# EAGLE library part STM32F469AGH6 (library circuit_tree)
IC
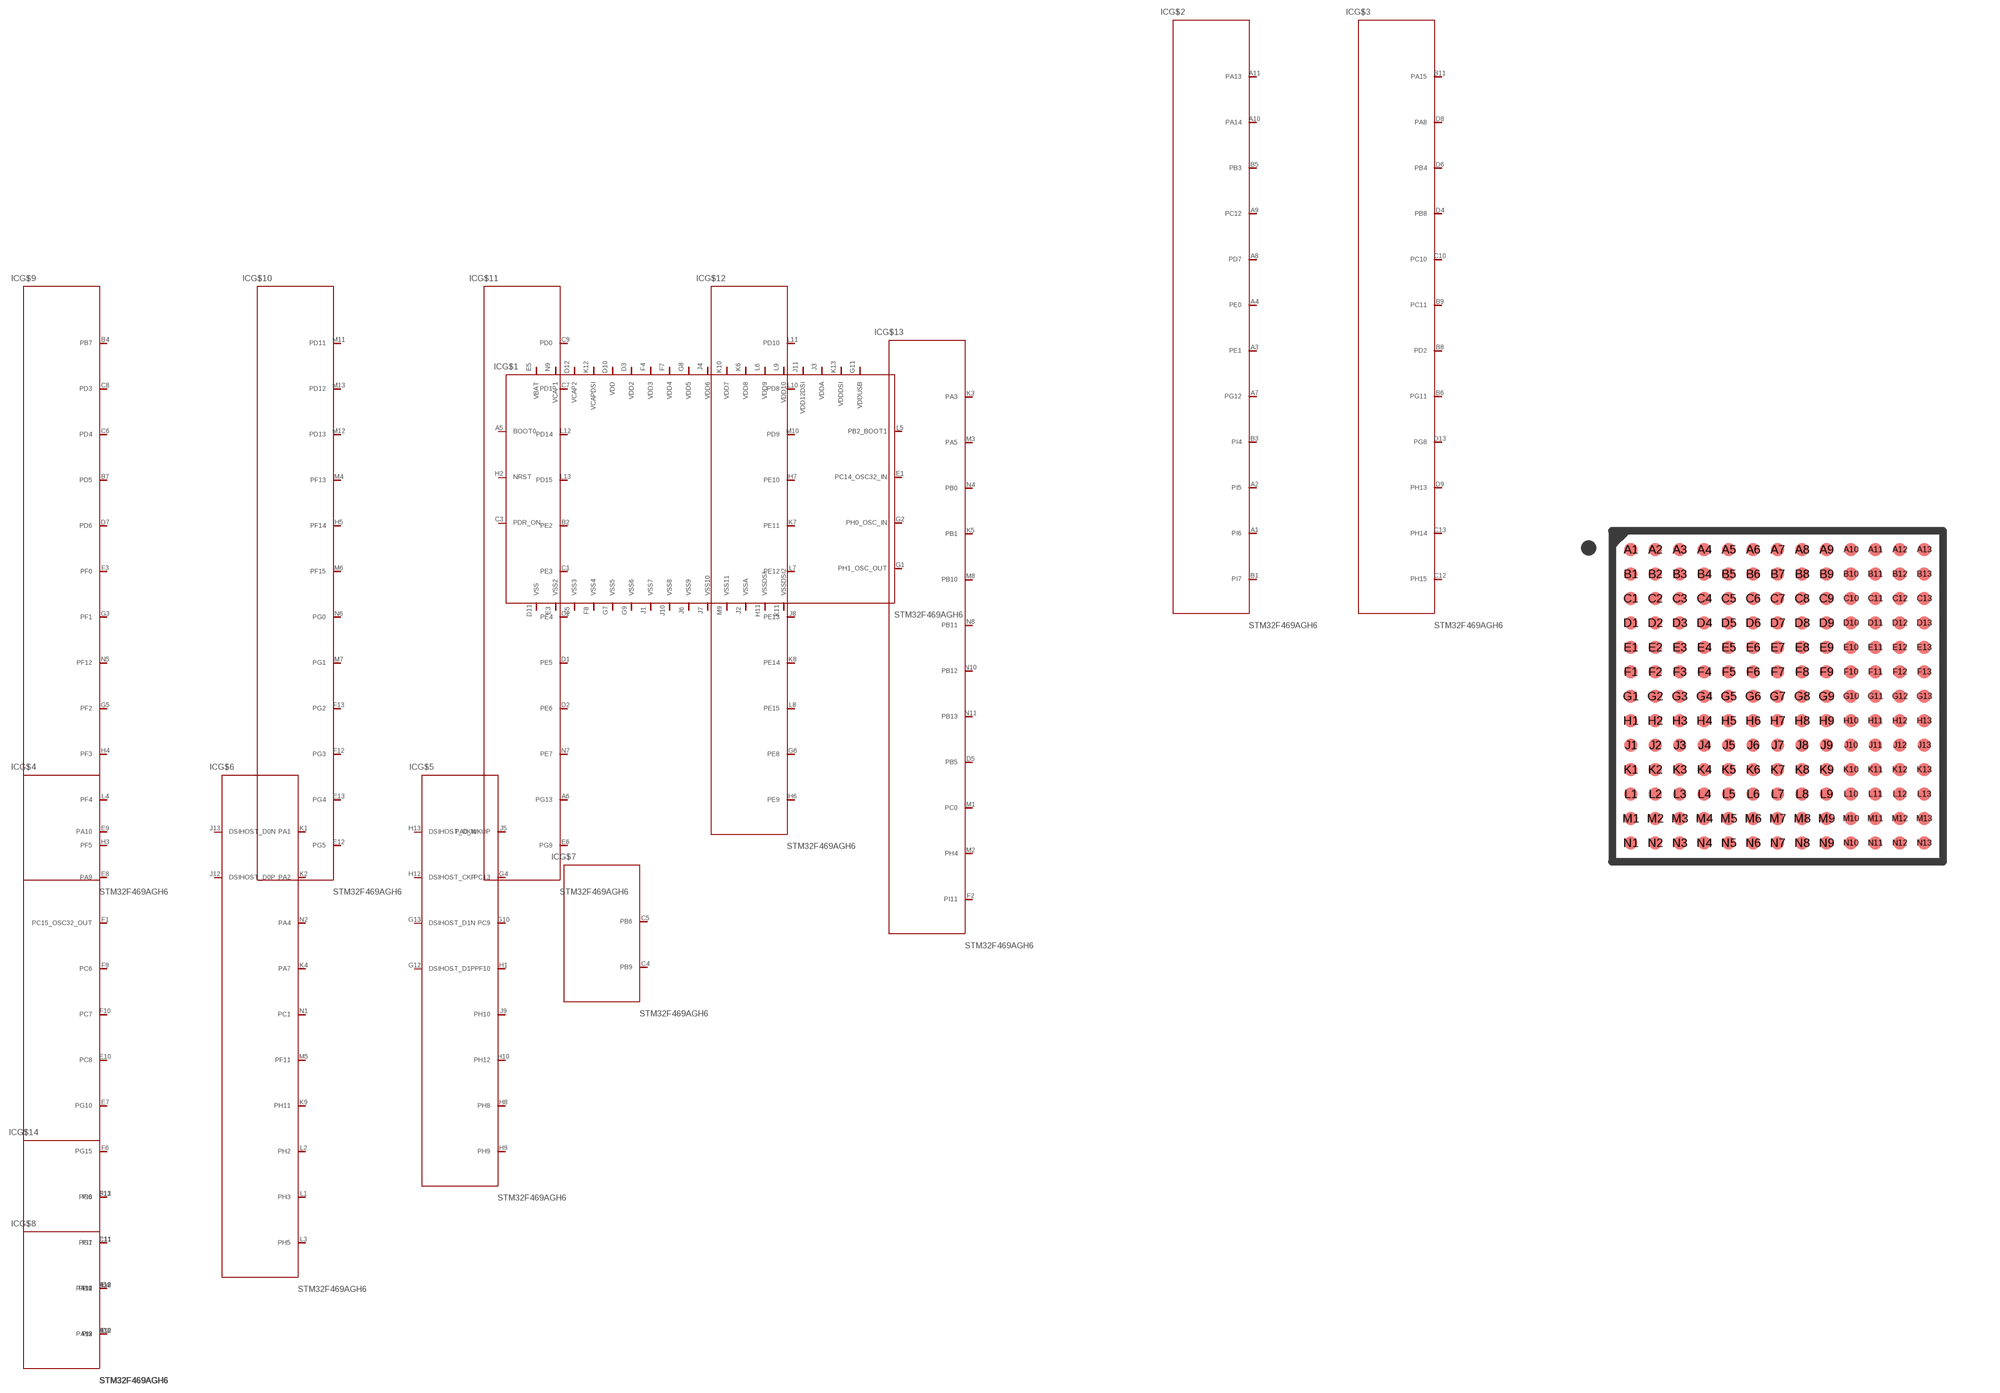
[diagram p9: symbol with the pads of UFBGA169; footprint UFBGA169]

Designator prefix IC; gates G$1=STM32F469AGH6 G$2=STM32F469AGH62 G$3=STM32F469AGH63 G$4=STM32F469AGH64 G$5=STM32F469AGH65 G$6=STM32F469AGH66 G$7=STM32F469AGH67 G$8=STM32F469AGH68 G$9=STM32F469AGH69 G$10=STM32F469AGH610 G$11=STM32F469AGH611 G$12=STM32F469AGH612 G$13=STM32F469AGH613 G$14=STM32F469AGH614

## STM32F469AGH6  [UFBGA169]
A1  G$2:PI6  pas
A2  G$2:PI5  pas
A3  G$2:PE1  pas
A4  G$2:PE0  pas
A5  G$1:BOOT0  pas
A6  G$11:PG13  pas
A7  G$2:PG12  pas
A8  G$2:PD7  pas
A9  G$2:PC12  pas
A10  G$2:PA14  pas
A11  G$2:PA13  pas
A12  G$8:PA12  pas
A13  G$8:PA11  pas
B1  G$2:PI7  pas
B2  G$11:PE2  pas
B3  G$2:PI4  pas
B4  G$9:PB7  pas
B5  G$2:PB3  pas
B6  G$3:PG11  pas
B7  G$9:PD5  pas
B8  G$3:PD2  pas
B9  G$3:PC11  pas
B10  G$14:PI3  pas
B11  G$3:PA15  pas
B12  G$14:PI2  pas
B13  G$14:PI0  pas
C1  G$11:PE3  pas
C2  G$11:PE4  pas
C3  G$1:PDR_ON  pas
C4  G$7:PB9  pas
C5  G$7:PB6  pas
C6  G$9:PD4  pas
C7  G$11:PD1  pas
C8  G$9:PD3  pas
C9  G$11:PD0  pas
C10  G$3:PC10  pas
C11  G$14:PI1  pas
C12  G$3:PH15  pas
C13  G$3:PH14  pas
D1  G$11:PE5  pas
D2  G$11:PE6  pas
D3  G$1:VDD2  pas
D4  G$3:PB8  pas
D5  G$13:PB5  pas
D6  G$3:PB4  pas
D7  G$9:PD6  pas
D8  G$3:PA8  pas
D9  G$3:PH13  pas
D10  G$1:VDD  pas
D11  G$1:VSS  pas
D12  G$1:VCAP2  pas
D13  G$3:PG8  pas
E1  G$1:PC14_OSC32_IN  pas
E2  G$4:PI9  pas
E3  G$1:VSS2  pas
E4  G$4:PI10  pas
E5  G$1:VBAT  pas
E6  G$11:PG9  pas
E7  G$4:PG10  pas
E8  G$4:PA9  pas
E9  G$4:PA10  pas
E10  G$4:PC8  pas
E11  G$4:PG7  pas
E12  G$10:PG5  pas
E13  G$10:PG4  pas
F1  G$4:PC15_OSC32_OUT  pas
F2  G$13:PI11  pas
F3  G$9:PF0  pas
F4  G$1:VDD3  pas
F5  G$1:VSS3  pas
F6  G$4:PG15  pas
F7  G$1:VDD4  pas
F8  G$1:VSS4  pas
F9  G$4:PC6  pas
F10  G$4:PC7  pas
F11  G$4:PG6  pas
F12  G$10:PG3  pas
F13  G$10:PG2  pas
G1  G$1:PH1_OSC_OUT  pas
G2  G$1:PH0_OSC_IN  pas
G3  G$9:PF1  pas
G4  G$5:PC13  pas
G5  G$9:PF2  pas
G6  G$12:PE8  pas
G7  G$1:VSS5  pas
G8  G$1:VDD5  pas
G9  G$1:VSS6  pas
G10  G$5:PC9  pas
G11  G$1:VDDUSB  pas
G12  G$5:DSIHOST_D1P  pas
G13  G$5:DSIHOST_D1N  pas
H1  G$5:PF10  pas
H2  G$1:NRST  pas
H3  G$9:PF5  pas
H4  G$9:PF3  pas
H5  G$10:PF14  pas
H6  G$12:PE9  pas
H7  G$12:PE10  pas
H8  G$5:PH8  pas
H9  G$5:PH9  pas
H10  G$5:PH12  pas
H11  G$1:VSSDSI  pas
H12  G$5:DSIHOST_CKP  pas
H13  G$5:DSIHOST_CKN  pas
J1  G$1:VSS7  pas
J2  G$1:VSSA  pas
J3  G$1:VDDA  pas
J4  G$1:VDD6  pas
J5  G$5:PA0_WKUP  pas
J6  G$1:VSS9  pas
J7  G$1:VSS10  pas
J8  G$12:PE13  pas
J9  G$5:PH10  pas
J10  G$1:VSS8  pas
J11  G$1:VDD12DSI  pas
J12  G$6:DSIHOST_D0P  pas
J13  G$6:DSIHOST_D0N  pas
K1  G$6:PA1  pas
K2  G$6:PA2  pas
K3  G$13:PA3  pas
K4  G$6:PA7  pas
K5  G$13:PB1  pas
K6  G$1:VDD8  pas
K7  G$12:PE11  pas
K8  G$12:PE14  pas
K9  G$6:PH11  pas
K10  G$1:VDD7  pas
K11  G$1:VSSDSI2  pas
K12  G$1:VCAPDSI  pas
K13  G$1:VDDDSI  pas
L1  G$6:PH3  pas
L2  G$6:PH2  pas
L3  G$6:PH5  pas
L4  G$9:PF4  pas
L5  G$1:PB2_BOOT1  pas
L6  G$1:VDD9  pas
L7  G$12:PE12  pas
L8  G$12:PE15  pas
L9  G$1:VDD10  pas
L10  G$12:PD8  pas
L11  G$12:PD10  pas
L12  G$11:PD14  pas
L13  G$11:PD15  pas
M1  G$13:PC0  pas
M2  G$13:PH4  pas
M3  G$13:PA5  pas
M4  G$10:PF13  pas
M5  G$6:PF11  pas
M6  G$10:PF15  pas
M7  G$10:PG1  pas
M8  G$13:PB10  pas
M9  G$1:VSS11  pas
M10  G$12:PD9  pas
M11  G$10:PD11  pas
M12  G$10:PD13  pas
M13  G$10:PD12  pas
N1  G$6:PC1  pas
N2  G$6:PA4  pas
N4  G$13:PB0  pas
N5  G$9:PF12  pas
N6  G$10:PG0  pas
N7  G$11:PE7  pas
N8  G$13:PB11  pas
N9  G$1:VCAP1  pas
N10  G$13:PB12  pas
N11  G$13:PB13  pas

## Footprint UFBGA169 (pad centres in mm)
smd 0.35 x 0.35: A1 -3.9,3.9; A2 -3.25,3.9; A3 -2.6,3.9; A4 -1.95,3.9; A5 -1.3,3.9; A6 -0.65,3.9; A7 0,3.9; A8 0.65,3.9; A9 1.3,3.9; A10 1.95,3.9; A11 2.6,3.9; A12 3.25,3.9; A13 3.9,3.9; B1 -3.9,3.25; B2 -3.25,3.25; B3 -2.6,3.25; B4 -1.95,3.25; B5 -1.3,3.25; B6 -0.65,3.25; B7 0,3.25; B8 0.65,3.25; B9 1.3,3.25; B10 1.95,3.25; B11 2.6,3.25; B12 3.25,3.25; B13 3.9,3.25; C1 -3.9,2.6; C2 -3.25,2.6; C3 -2.6,2.6; C4 -1.95,2.6; C5 -1.3,2.6; C6 -0.65,2.6; C7 0,2.6; C8 0.65,2.6; C9 1.3,2.6; C10 1.95,2.6; C11 2.6,2.6; C12 3.25,2.6; C13 3.9,2.6; D1 -3.9,1.95; D2 -3.25,1.95; D3 -2.6,1.95; D4 -1.95,1.95; D5 -1.3,1.95; D6 -0.65,1.95; D7 0,1.95; D8 0.65,1.95; D9 1.3,1.95; D10 1.95,1.95; D11 2.6,1.95; D12 3.25,1.95; D13 3.9,1.95; E1 -3.9,1.3; E2 -3.25,1.3; E3 -2.6,1.3; E4 -1.95,1.3; E5 -1.3,1.3; E6 -0.65,1.3; E7 0,1.3; E8 0.65,1.3; E9 1.3,1.3; E10 1.95,1.3; E11 2.6,1.3; E12 3.25,1.3; E13 3.9,1.3; F1 -3.9,0.65; F2 -3.25,0.65; F3 -2.6,0.65; F4 -1.95,0.65; F5 -1.3,0.65; F6 -0.65,0.65; F7 0,0.65; F8 0.65,0.65; F9 1.3,0.65; F10 1.95,0.65; F11 2.6,0.65; F12 3.25,0.65; F13 3.9,0.65; G1 -3.9,0; G2 -3.25,0; G3 -2.6,0; G4 -1.95,0; G5 -1.3,0; G6 -0.65,0; G7 0,0; G8 0.65,0; G9 1.3,0; G10 1.95,0; G11 2.6,0; G12 3.25,0; G13 3.9,0; H1 -3.9,-0.65; H2 -3.25,-0.65; H3 -2.6,-0.65; H4 -1.95,-0.65; H5 -1.3,-0.65; H6 -0.65,-0.65; H7 0,-0.65; H8 0.65,-0.65; H9 1.3,-0.65; H10 1.95,-0.65; H11 2.6,-0.65; H12 3.25,-0.65; H13 3.9,-0.65; J1 -3.9,-1.3; J2 -3.25,-1.3; J3 -2.6,-1.3; J4 -1.95,-1.3; J5 -1.3,-1.3; J6 -0.65,-1.3; J7 0,-1.3; J8 0.65,-1.3; J9 1.3,-1.3; J10 1.95,-1.3; J11 2.6,-1.3; J12 3.25,-1.3; J13 3.9,-1.3; K1 -3.9,-1.95; K2 -3.25,-1.95; K3 -2.6,-1.95; K4 -1.95,-1.95; K5 -1.3,-1.95; K6 -0.65,-1.95; K7 0,-1.95; K8 0.65,-1.95; K9 1.3,-1.95; K10 1.95,-1.95; K11 2.6,-1.95; K12 3.25,-1.95; K13 3.9,-1.95; L1 -3.9,-2.6; L2 -3.25,-2.6; L3 -2.6,-2.6; L4 -1.95,-2.6; L5 -1.3,-2.6; L6 -0.65,-2.6; L7 0,-2.6; L8 0.65,-2.6; L9 1.3,-2.6; L10 1.95,-2.6; L11 2.6,-2.6; L12 3.25,-2.6; L13 3.9,-2.6; M1 -3.9,-3.25; M2 -3.25,-3.25; M3 -2.6,-3.25; M4 -1.95,-3.25; M5 -1.3,-3.25; M6 -0.65,-3.25; M7 0,-3.25; M8 0.65,-3.25; M9 1.3,-3.25; M10 1.95,-3.25; M11 2.6,-3.25; M12 3.25,-3.25; M13 3.9,-3.25; N1 -3.9,-3.9; N2 -3.25,-3.9; N3 -2.6,-3.9; N4 -1.95,-3.9; N5 -1.3,-3.9; N6 -0.65,-3.9; N7 0,-3.9; N8 0.65,-3.9; N9 1.3,-3.9; N10 1.95,-3.9; N11 2.6,-3.9; N12 3.25,-3.9; N13 3.9,-3.9